# EAGLE library part C8051F410 (library Zoli2_2015-02-22)
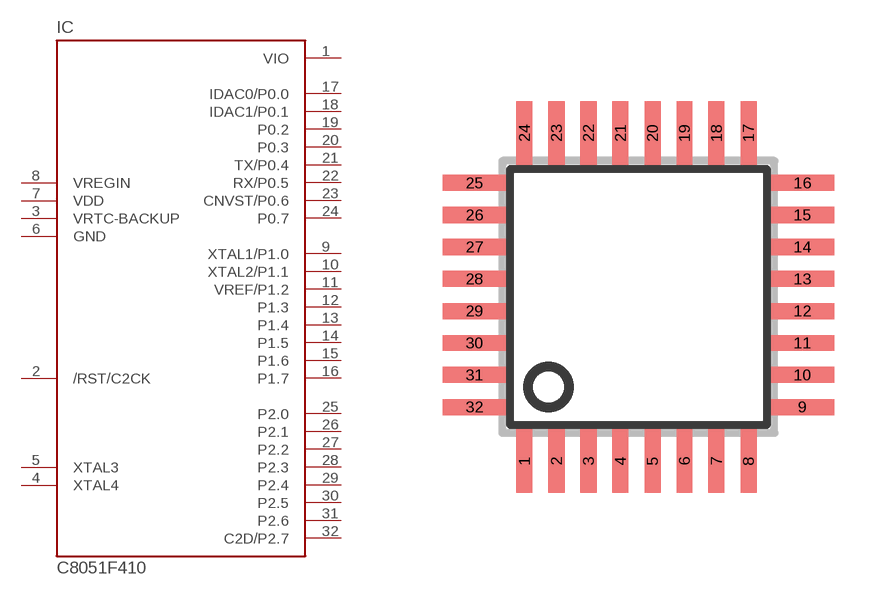
[diagram p41: symbol with the pads of LQFP-32; footprint LQFP-32]

Designator prefix IC

## C8051F410  [LQFP-32]
1  VIO
2  /RST/C2CK
3  VRTC-BACKUP
4  XTAL4
5  XTAL3
6  GND
7  VDD
8  VREGIN
9  XTAL1/P1.0
10  XTAL2/P1.1
11  VREF/P1.2
12  P1.3
13  P1.4
14  P1.5
15  P1.6
16  P1.7
17  IDAC0/P0.0
18  IDAC1/P0.1
19  P0.2
20  P0.3
21  TX/P0.4
22  RX/P0.5
23  CNVST/P0.6
24  P0.7
25  P2.0
26  P2.1
27  P2.2
28  P2.3
29  P2.4
30  P2.5
31  P2.6
32  C2D/P2.7

## Footprint LQFP-32 (pad centres in mm)
QFP32 shrink quad flat pack, square
smd 0.4 x 1.6: 1 -2.85,-4.1; 2 -2.05,-4.1; 3 -1.25,-4.1; 4 -0.45,-4.1; 5 0.35,-4.1; 6 1.15,-4.1; 7 1.95,-4.1; 8 2.75,-4.1; 17 2.75,4.1; 18 1.95,4.1; 19 1.15,4.1; 20 0.35,4.1; 21 -0.45,4.1; 22 -1.25,4.1; 23 -2.05,4.1; 24 -2.85,4.1
smd 1.6 x 0.4: 9 4.1,-2.75; 10 4.1,-1.95; 11 4.1,-1.15; 12 4.1,-0.35; 13 4.1,0.45; 14 4.1,1.25; 15 4.1,2.05; 16 4.1,2.85; 25 -4.1,2.85; 26 -4.1,2.05; 27 -4.1,1.25; 28 -4.1,0.45; 29 -4.1,-0.35; 30 -4.1,-1.15; 31 -4.1,-1.95; 32 -4.1,-2.75